# Altium schematic symbol library PCB_Project_1.SCHLIB: 1 symbol
Pins are listed as number, name and electrical type; pins without a type are passive.

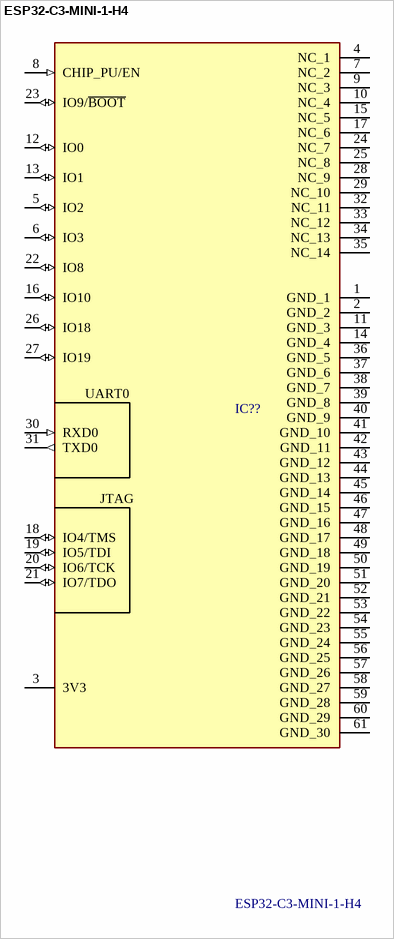
[diagram p0: symbol ESP32-C3-MINI-1-H4]

## ESP32-C3-MINI-1-H4
designator IC??
Integrated Circuit; Manufacturer_Name: Espressif Systems; Datasheet Link: https://www.mouser.es/datasheet/2/891/Espressif_ESP32_C3_MINI_1_Datasheet-2006822.pdf; Height: 2.55mm; Manufacturer_Part_Number: ESP32-C3-MINI-1-H4
footprint ESP32C3MINI1H4
pins: 1 GND_1 (power), 2 GND_2 (power), 3 3V3 (power), 4 NC_1 (hiz), 5 IO2 (io), 6 IO3 (io), 7 NC_2 (hiz), 8 CHIP_PU/EN (in), 9 NC_3 (hiz), 10 NC_4 (hiz), 11 GND_3 (power), 12 IO0 (io), 13 IO1 (io), 14 GND_4 (power), 15 NC_5 (hiz), 16 IO10 (io), 17 NC_6 (hiz), 18 IO4/TMS (io), 19 IO5/TDI (io), 20 IO6/TCK (io), 21 IO7/TDO (io), 22 IO8 (io), 23 IO9/~{BOOT} (io), 24 NC_7 (hiz), 25 NC_8 (hiz), 26 IO18 (io), 27 IO19 (io), 28 NC_9 (hiz), 29 NC_10 (hiz), 30 RXD0 (in), 31 TXD0 (out), 32 NC_11 (hiz), 33 NC_12 (hiz), 34 NC_13 (hiz), 35 NC_14 (hiz), 36 GND_5 (power), 37 GND_6 (power), 38 GND_7 (power), 39 GND_8 (power), 40 GND_9 (power), 41 GND_10 (power), 42 GND_11 (power), 43 GND_12 (power), 44 GND_13 (power), 45 GND_14 (power), 46 GND_15 (power), 47 GND_16 (power), 48 GND_17 (power), 49 GND_18 (power), 50 GND_19 (power), 51 GND_20 (power), 52 GND_21 (power), 53 GND_22 (power), 54 GND_23 (power), 55 GND_24 (power), 56 GND_25 (power), 57 GND_26 (power), 58 GND_27 (power), 59 GND_28 (power), 60 GND_29 (power), 61 GND_30 (power)
text: UART0; JTAG